# Altium schematic symbol library 3D_MIG_Controller.SCHLIB: 528 symbols (part 6 of 6)
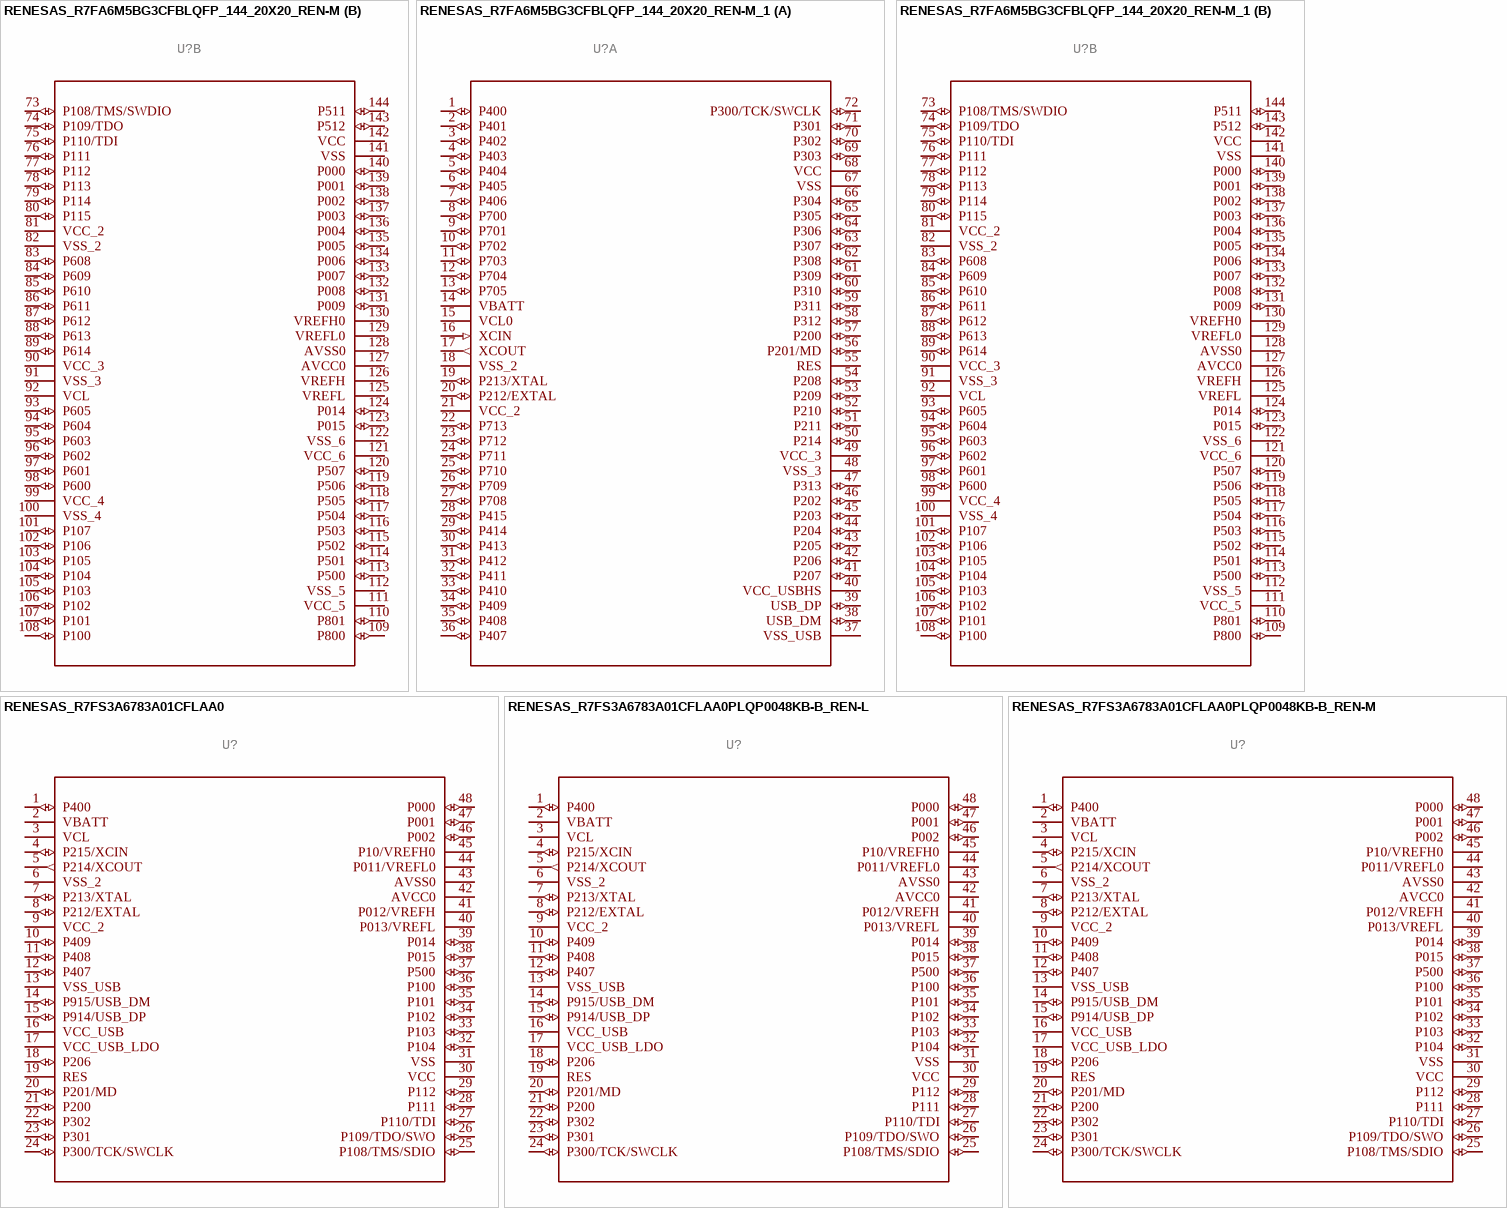
[diagram p37: symbols RENESAS_R7FA6M5BG3CFBLQFP_144_20X20_REN-M to RENESAS_R7FS3A6783A01CFLAA0PLQP0048KB-B_REN-M]

## RENESAS_R7FA6M5BG3CFBLQFP_144_20X20_REN-M_1
designator U?
MANUFACTURER_PART_NUMBER: R7FA6M5BG3CFB; MFR_NAME: Renesas Electronics; GateName_1: A; SymbolName_1: R7FA6M5BG3CFB_A; GateName_2: B; SymbolName_2: R7FA6M5BG3CFB_B; DeviceName: LQFP_144_20X20_REN-M; DeviceSetName: RENESAS_R7FA6M5BG3CFB; LibraryName: 3D_MIG_Controller; Package: LQFP_144_20X20_REN-M; COPYRIGHT: Copyright (C) 2022 Ultra Librarian. All rights reserved.
footprint LQFP_144_20X20_REN-M
part A pins: 1 P400 (io), 2 P401 (io), 3 P402 (io), 4 P403 (io), 5 P404 (io), 6 P405 (io), 7 P406 (io), 8 P700 (io), 9 P701 (io), 10 P702 (io), 11 P703 (io), 12 P704 (io), 13 P705 (io), 14 VBATT (power), 15 VCL0 (power), 16 XCIN (in), 17 XCOUT (out), 18 VSS_2 (power), 19 P213/XTAL (io), 20 P212/EXTAL (io), 21 VCC_2 (power), 22 P713 (io), 23 P712 (io), 24 P711 (io), 25 P710 (io), 26 P709 (io), 27 P708 (io), 28 P415 (io), 29 P414 (io), 30 P413 (io), 31 P412 (io), 32 P411 (io), 33 P410 (io), 34 P409 (io), 35 P408 (io), 36 P407 (io), 37 VSS_USB (power), 38 USB_DM (io), 39 USB_DP (io), 40 VCC_USBHS (power), 41 P207 (io), 42 P206 (io), 43 P205 (io), 44 P204 (io), 45 P203 (io), 46 P202 (io), 47 P313 (io), 48 VSS_3 (power), 49 VCC_3 (power), 50 P214 (io), 51 P211 (io), 52 P210 (io), 53 P209 (io), 54 P208 (io), 55 RES, 56 P201/MD (io), 57 P200 (io), 58 P312 (io), 59 P311 (io), 60 P310 (io), 61 P309 (io), 62 P308 (io), 63 P307 (io), 64 P306 (io), 65 P305 (io), 66 P304 (io), 67 VSS (power), 68 VCC (power), 69 P303 (io), 70 P302 (io), 71 P301 (io), 72 P300/TCK/SWCLK (io)
part B pins: 73 P108/TMS/SWDIO (io), 74 P109/TDO (io), 75 P110/TDI (io), 76 P111 (io), 77 P112 (io), 78 P113 (io), 79 P114 (io), 80 P115 (io), 81 VCC_2 (power), 82 VSS_2 (power), 83 P608 (io), 84 P609 (io), 85 P610 (io), 86 P611 (io), 87 P612 (io), 88 P613 (io), 89 P614 (io), 90 VCC_3 (power), 91 VSS_3 (power), 92 VCL (power), 93 P605 (io), 94 P604 (io), 95 P603 (io), 96 P602 (io), 97 P601 (io), 98 P600 (io), 99 VCC_4 (power), 100 VSS_4 (power), 101 P107 (io), 102 P106 (io), 103 P105 (io), 104 P104 (io), 105 P103 (io), 106 P102 (io), 107 P101 (io), 108 P100 (io), 109 P800 (io), 110 P801 (io), 111 VCC_5 (power), 112 VSS_5 (power), 113 P500 (io), 114 P501 (io), 115 P502 (io), 116 P503 (io), 117 P504 (io), 118 P505 (io), 119 P506 (io), 120 P507 (io), 121 VCC_6 (power), 122 VSS_6 (power), 123 P015 (io), 124 P014 (io), 125 VREFL (power), 126 VREFH (power), 127 AVCC0 (power), 128 AVSS0 (power), 129 VREFL0 (power), 130 VREFH0 (power), 131 P009 (io), 132 P008 (io), 133 P007 (io), 134 P006 (io), 135 P005 (io), 136 P004 (io), 137 P003 (io), 138 P002 (io), 139 P001 (io), 140 P000 (io), 141 VSS (power), 142 VCC (power), 143 P512 (io), 144 P511 (io)

## RENESAS_R7FS3A6783A01CFLAA0
designator U?
MANUFACTURER_PART_NUMBER: R7FS3A6783A01CFL#AA0; GateName_1: A; SymbolName_1: R7FS3A6783A01CFLAA0; DeviceSetName: RENESAS_R7FS3A6783A01CFLAA0; BUILT_BY: EMA_Cory; SOURCELIBRARY: Add_to_database_2021-06-10; VENDOR: Renesas Electronics; LibraryName: 3D_MIG_Controller; Package: PLQP0048KB-B_REN; COPYRIGHT: Copyright (C) 2021 Accelerated Designs. All rights reserved; DATASHEET: https://www.renesas.com/us/en/document/dst/s3a6-microcontroller-group-datasheet-r01ds0308eu0120?language=en
footprint PLQP0048KB-B_REN
pins: 1 P400 (io), 2 VBATT, 3 VCL, 4 P215/XCIN (io), 5 P214/XCOUT (out), 6 VSS_2, 7 P213/XTAL (io), 8 P212/EXTAL (io), 9 VCC_2 (power), 10 P409 (io), 11 P408 (io), 12 P407 (io), 13 VSS_USB, 14 P915/USB_DM (io), 15 P914/USB_DP (io), 16 VCC_USB (power), 17 VCC_USB_LDO (power), 18 P206 (io), 19 RES, 20 P201/MD (io), 21 P200 (io), 22 P302 (io), 23 P301 (io), 24 P300/TCK/SWCLK (io), 25 P108/TMS/SDIO (io), 26 P109/TDO/SWO (io), 27 P110/TDI (io), 28 P111 (io), 29 P112 (io), 30 VCC (power), 31 VSS, 32 P104 (io), 33 P103 (io), 34 P102 (io), 35 P101 (io), 36 P100 (io), 37 P500 (io), 38 P015 (io), 39 P014 (io), 40 P013/VREFL (power), 41 P012/VREFH (power), 42 AVCC0 (power), 43 AVSS0, 44 P011/VREFL0 (power), 45 P10/VREFH0 (power), 46 P002 (io), 47 P001 (io), 48 P000 (io)

## RENESAS_R7FS3A6783A01CFLAA0PLQP0048KB-B_REN-L
designator U?
MANUFACTURER_PART_NUMBER: R7FS3A6783A01CFL#AA0; GateName_1: A; SymbolName_1: R7FS3A6783A01CFLAA0; DeviceName: PLQP0048KB-B_REN-L; DeviceSetName: RENESAS_R7FS3A6783A01CFLAA0; BUILT_BY: EMA_Cory; SOURCELIBRARY: Add_to_database_2021-06-10; VENDOR: Renesas Electronics; LibraryName: 3D_MIG_Controller; Package: PLQP0048KB-B_REN-L; COPYRIGHT: Copyright (C) 2021 Accelerated Designs. All rights reserved; DATASHEET: https://www.renesas.com/us/en/document/dst/s3a6-microcontroller-group-datasheet-r01ds0308eu0120?language=en
footprint PLQP0048KB-B_REN-L
pins: 1 P400 (io), 2 VBATT, 3 VCL, 4 P215/XCIN (io), 5 P214/XCOUT (out), 6 VSS_2, 7 P213/XTAL (io), 8 P212/EXTAL (io), 9 VCC_2 (power), 10 P409 (io), 11 P408 (io), 12 P407 (io), 13 VSS_USB, 14 P915/USB_DM (io), 15 P914/USB_DP (io), 16 VCC_USB (power), 17 VCC_USB_LDO (power), 18 P206 (io), 19 RES, 20 P201/MD (io), 21 P200 (io), 22 P302 (io), 23 P301 (io), 24 P300/TCK/SWCLK (io), 25 P108/TMS/SDIO (io), 26 P109/TDO/SWO (io), 27 P110/TDI (io), 28 P111 (io), 29 P112 (io), 30 VCC (power), 31 VSS, 32 P104 (io), 33 P103 (io), 34 P102 (io), 35 P101 (io), 36 P100 (io), 37 P500 (io), 38 P015 (io), 39 P014 (io), 40 P013/VREFL (power), 41 P012/VREFH (power), 42 AVCC0 (power), 43 AVSS0, 44 P011/VREFL0 (power), 45 P10/VREFH0 (power), 46 P002 (io), 47 P001 (io), 48 P000 (io)

## RENESAS_R7FS3A6783A01CFLAA0PLQP0048KB-B_REN-M
designator U?
MANUFACTURER_PART_NUMBER: R7FS3A6783A01CFL#AA0; GateName_1: A; SymbolName_1: R7FS3A6783A01CFLAA0; DeviceName: PLQP0048KB-B_REN-M; DeviceSetName: RENESAS_R7FS3A6783A01CFLAA0; BUILT_BY: EMA_Cory; SOURCELIBRARY: Add_to_database_2021-06-10; VENDOR: Renesas Electronics; LibraryName: 3D_MIG_Controller; Package: PLQP0048KB-B_REN-M; COPYRIGHT: Copyright (C) 2021 Accelerated Designs. All rights reserved; DATASHEET: https://www.renesas.com/us/en/document/dst/s3a6-microcontroller-group-datasheet-r01ds0308eu0120?language=en
footprint PLQP0048KB-B_REN-M
pins: 1 P400 (io), 2 VBATT, 3 VCL, 4 P215/XCIN (io), 5 P214/XCOUT (out), 6 VSS_2, 7 P213/XTAL (io), 8 P212/EXTAL (io), 9 VCC_2 (power), 10 P409 (io), 11 P408 (io), 12 P407 (io), 13 VSS_USB, 14 P915/USB_DM (io), 15 P914/USB_DP (io), 16 VCC_USB (power), 17 VCC_USB_LDO (power), 18 P206 (io), 19 RES, 20 P201/MD (io), 21 P200 (io), 22 P302 (io), 23 P301 (io), 24 P300/TCK/SWCLK (io), 25 P108/TMS/SDIO (io), 26 P109/TDO/SWO (io), 27 P110/TDI (io), 28 P111 (io), 29 P112 (io), 30 VCC (power), 31 VSS, 32 P104 (io), 33 P103 (io), 34 P102 (io), 35 P101 (io), 36 P100 (io), 37 P500 (io), 38 P015 (io), 39 P014 (io), 40 P013/VREFL (power), 41 P012/VREFH (power), 42 AVCC0 (power), 43 AVSS0, 44 P011/VREFL0 (power), 45 P10/VREFH0 (power), 46 P002 (io), 47 P001 (io), 48 P000 (io)

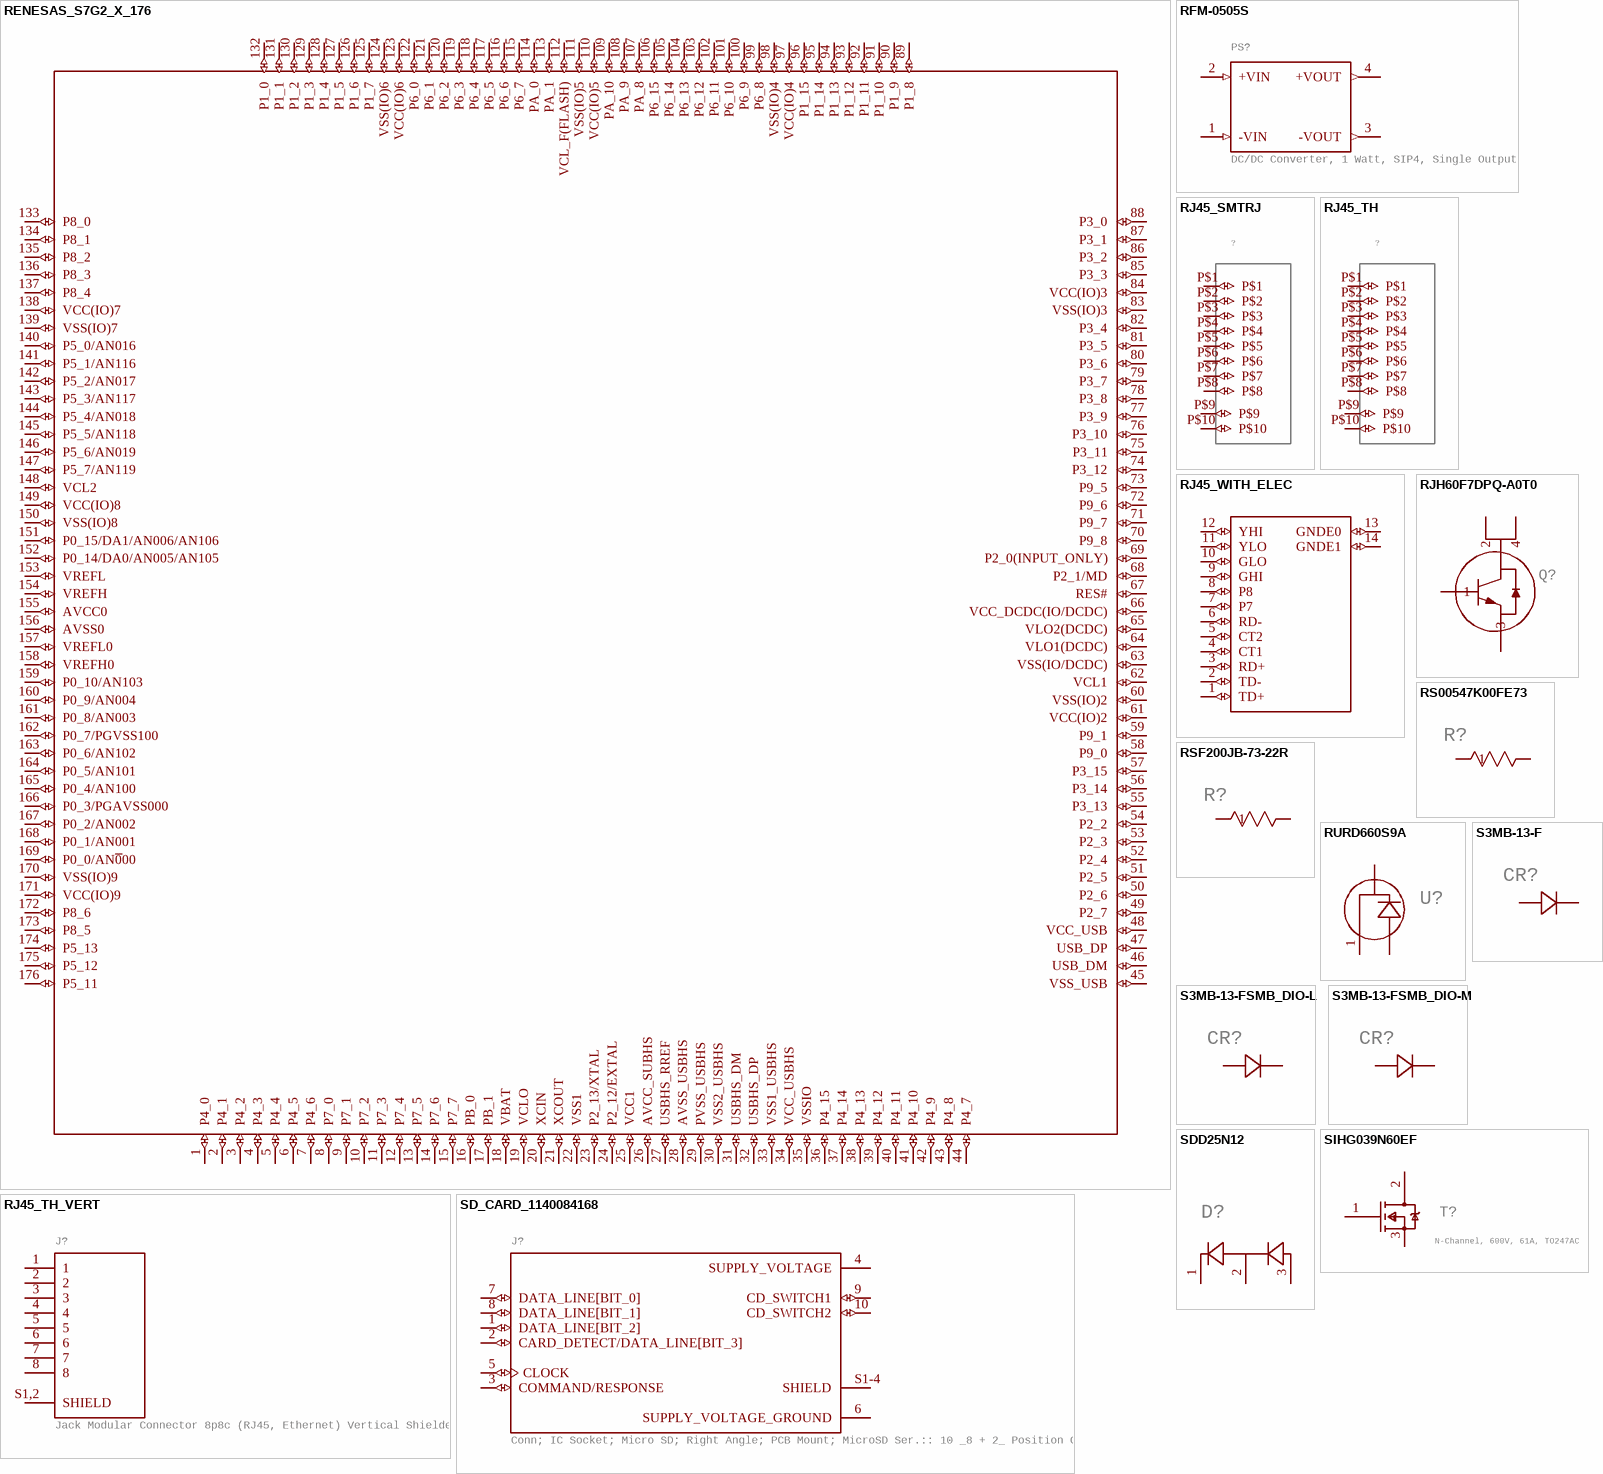
[diagram p30: symbols RENESAS_S7G2_X_176 to SIHG039N60EF]

## RENESAS_S7G2_X_176
designator U?
PARTNO: R7FS7G27H3A01CFC#AA0; GateName_1: G$1; SymbolName_1: S7G2_X_176_PIN; DeviceSetName: RENESAS_S7G2_X_176; LibraryName: 3D_MIG_Controller; Package: LQFP176_24X24
footprint LQFP176_24X24
pins: 1 P4_0 (io), 2 P4_1 (io), 3 P4_2 (io), 4 P4_3 (io), 5 P4_4 (io), 6 P4_5 (io), 7 P4_6 (io), 8 P7_0 (io), 9 P7_1 (io), 10 P7_2 (io), 11 P7_3 (io), 12 P7_4 (io), 13 P7_5 (io), 14 P7_6 (io), 15 P7_7 (io), 16 PB_0 (io), 17 PB_1 (io), 18 VBAT (io), 19 VCLO (io), 20 XCIN (io), 21 XCOUT (io), 22 VSS1 (io), 23 P2_13/XTAL (io), 24 P2_12/EXTAL (io), 25 VCC1 (io), 26 AVCC_SUBHS (io), 27 USBHS_RREF (io), 28 AVSS_USBHS (io), 29 PVSS_USBHS (io), 30 VSS2_USBHS (io), 31 USBHS_DM (io), 32 USBHS_DP (io), 33 VSS1_USBHS (io), 34 VCC_USBHS (io), 35 VSSIO (io), 36 P4_15 (io), 37 P4_14 (io), 38 P4_13 (io), 39 P4_12 (io), 40 P4_11 (io), 41 P4_10 (io), 42 P4_9 (io), 43 P4_8 (io), 44 P4_7 (io), 45 VSS_USB (io), 46 USB_DM (io), 47 USB_DP (io), 48 VCC_USB (io), 49 P2_7 (io), 50 P2_6 (io), 51 P2_5 (io), 52 P2_4 (io), 53 P2_3 (io), 54 P2_2 (io), 55 P3_13 (io), 56 P3_14 (io), 57 P3_15 (io), 58 P9_0 (io), 59 P9_1 (io), 60 VSS(IO)2 (io), 61 VCC(IO)2 (io), 62 VCL1 (io), 63 VSS(IO/DCDC) (io), 64 VLO1(DCDC) (io), 65 VLO2(DCDC) (io), 66 VCC_DCDC(IO/DCDC) (io), 67 RES# (io), 68 P2_1/MD (io), 69 P2_0(INPUT_ONLY) (io), 70 P9_8 (io), 71 P9_7 (io), 72 P9_6 (io), 73 P9_5 (io), 74 P3_12 (io), 75 P3_11 (io), 76 P3_10 (io), 77 P3_9 (io), 78 P3_8 (io), 79 P3_7 (io), 80 P3_6 (io), 81 P3_5 (io), 82 P3_4 (io), 83 VSS(IO)3 (io), 84 VCC(IO)3 (io), 85 P3_3 (io), 86 P3_2 (io), 87 P3_1 (io), 88 P3_0 (io), 89 P1_8 (io), 90 P1_9 (io), 91 P1_10 (io), 92 P1_11 (io), 93 P1_12 (io), 94 P1_13 (io), 95 P1_14 (io), 96 P1_15 (io), 97 VCC(IO)4 (io), 98 VSS(IO)4 (io), 99 P6_8 (io), 100 P6_9 (io), 101 P6_10 (io), 102 P6_11 (io), 103 P6_12 (io), 104 P6_13 (io), 105 P6_14 (io), 106 P6_15 (io), 107 PA_8 (io), 108 PA_9 (io), 109 PA_10 (io), 110 VCC(IO)5 (io), 111 VSS(IO)5 (io), 112 VCL_F(FLASH) (io), 113 PA_1 (io), 114 PA_0 (io), 115 P6_7 (io), 116 P6_6 (io), 117 P6_5 (io), 118 P6_4 (io), 119 P6_3 (io), 120 P6_2 (io), 121 P6_1 (io), 122 P6_0 (io), 123 VCC(IO)6 (io), 124 VSS(IO)6 (io), 125 P1_7 (io), 126 P1_6 (io), 127 P1_5 (io), 128 P1_4 (io), 129 P1_3 (io), 130 P1_2 (io), 131 P1_1 (io), 132 P1_0 (io), 133 P8_0 (io), 134 P8_1 (io), 135 P8_2 (io), 136 P8_3 (io), 137 P8_4 (io), 138 VCC(IO)7 (io), 139 VSS(IO)7 (io), 140 P5_0/AN016 (io), 141 P5_1/AN116 (io), 142 P5_2/AN017 (io), 143 P5_3/AN117 (io), 144 P5_4/AN018 (io), 145 P5_5/AN118 (io), 146 P5_6/AN019 (io), 147 P5_7/AN119 (io), 148 VCL2 (io), 149 VCC(IO)8 (io), 150 VSS(IO)8 (io), 151 P0_15/DA1/AN006/AN106 (io), 152 P0_14/DA0/AN005/AN105 (io), 153 VREFL (io), 154 VREFH (io), 155 AVCC0 (io), 156 AVSS0 (io), 157 VREFL0 (io), 158 VREFH0 (io), 159 P0_10/AN103 (io), 160 P0_9/AN004 (io), 161 P0_8/AN003 (io), 162 P0_7/PGVSS100 (io), 163 P0_6/AN102 (io), 164 P0_5/AN101 (io), 165 P0_4/AN100 (io), 166 P0_3/PGAVSS000 (io), 167 P0_2/AN002 (io), 168 P0_1/AN001 (io), 169 P0_0/AN~{0}00 (io), 170 VSS(IO)9 (io), 171 VCC(IO)9 (io), 172 P8_6 (io), 173 P8_5 (io), 174 P5_13 (io), 175 P5_12 (io), 176 P5_11 (io)

## RFM-0505S
designator PS?, comment DC/DC Converter, 1 Watt, SIP4, Single Output
GateName_1: G$1; SymbolName_1: RFM-0505S; MF: Recom Power; LibraryName: 3D_MIG_Controller; DeviceSetName: RFM-0505S; Package: CONV_RFM-0505S; DIGI-KEY_PART_NUMBER: 945-3159-ND; DIGIKEY-PURCHASE-URL: https://snapeda.com/shop?store=DigiKey&id=2771046; MOUSER-PURCHASE-URL: https://snapeda.com/shop?store=Mouser&id=2771046; MP: RFM-0505S; PACKAGE: SIP-4 Recom Power
footprint CONV_RFM-0505S
pins: 1 -VIN (in), 2 +VIN (in), 3 -VOUT (out), 4 +VOUT (out)

## RJ45_SMTRJ
designator ?
GateName_1: G$1; SymbolName_1: RJ45; DeviceName: RJ; DeviceSetName: RJ45_SMT; LibraryName: 3D_MIG_Controller; Package: RJ45_SMT
footprint RJ45_SMT
pins: P$1 (io), P$2 (io), P$3 (io), P$4 (io), P$5 (io), P$6 (io), P$7 (io), P$8 (io), P$9 (io), P$10 (io)

## RJ45_TH
designator ?
GateName_1: G$1; SymbolName_1: RJ45; DeviceSetName: RJ45_TH; LibraryName: 3D_MIG_Controller; Package: RJ45_TH
footprint RJ45_TH
pins: P$1 (io), P$2 (io), P$3 (io), P$4 (io), P$5 (io), P$6 (io), P$7 (io), P$8 (io), P$9 (io), P$10 (io)

## RJ45_TH_VERT
designator J?, comment Jack Modular Connector 8p8c (RJ45, Ethernet) Vertical Shielded
GateName_1: G$1; SymbolName_1: A-2014-2S-4-N-R; DeviceSetName: RJ45_TH_VERT; MF: Assmann WSW Components; LibraryName: 3D_MIG_Controller; Package: ASSMANN_A-2014-2S-4-N-R; DIGI-KEY_PART_NUMBER: AE10399-ND; MP: A-2014-2S-4-N-R; PACKAGE: None
footprint ASSMANN_A-2014-2S-4-N-R
pins: 1, 2, 3, 4, 5, 6, 7, 8, S1,2 SHIELD

## RJ45_WITH_ELEC
designator RJ?
PARTNO: 13F-64GYD2PL2NL; GateName_1: G$1; SymbolName_1: RJ45_WITH_ELEC; MAN: Shanghai YDS Tech; VENDOR: lcsc.com; LibraryName: 3D_MIG_Controller; DeviceSetName: RJ45_WITH_ELEC; Package: RJ45_TH_ELEC
footprint RJ45_TH_ELEC
pins: 1 TD+ (io), 2 TD- (io), 3 RD+ (io), 4 CT1 (io), 5 CT2 (io), 6 RD- (io), 7 P7 (io), 8 P8 (io), 9 GHI (io), 10 GLO (io), 11 YLO (io), 12 YHI (io), 13 GNDE0 (io), 14 GNDE1 (io)

## RJH60F7DPQ-A0T0
designator Q?
MANUFACTURER_PART_NUMBER: RJH60F7DPQ-A0#T0; GateName_1: A; SymbolName_1: TRANS_N_IGBT_4PIN; DeviceSetName: RJH60F7DPQ-A0T0; BUILT_BY: EMA_UL_Team; SOURCELIBRARY: Renesas_2011-03-28_IGBT; VENDOR: Renesas Electronics; LibraryName: 3D_MIG_Controller; Package: TO-247A_REN
footprint TO-247A_REN
pins: 1, 2, 3, 4

## RS00547K00FE73
designator R?
GateName_1: A; SymbolName_1: RES; DeviceSetName: RS00547K00FE73; BUILT_BY: EMA_UL_Team; SOURCELIBRARY: Vishay_2014-12-31; VENDOR: Vishay; LibraryName: 3D_MIG_Controller; Package: RS005_VIS; MANUFACTURER_PART_NUMBER: RS00547K00FE73
footprint RS005_VIS
pins: 1, 2

## RSF200JB-73-22R
designator R?
GateName_1: A; SymbolName_1: RES; DeviceSetName: RSF200JB-73-22R; BUILT_BY: EMA_UL_Team; SOURCELIBRARY: Yageo_2014-12-31; VENDOR: Yageo; LibraryName: 3D_MIG_Controller; Package: YAG_RSF200_YAG; MANUFACTURER_PART_NUMBER: RSF200JB-73-22R
footprint YAG_RSF200_YAG
pins: 1, 2

## RURD660S9A
designator U?
GateName_1: A; SymbolName_1: DIODE_2XCATHODE; DeviceSetName: RURD660S9A; LibraryName: 3D_MIG_Controller; Package: TO-252
footprint TO-252
pins: 1 C1, 2 A, 3 C2

## S3MB-13-F
designator CR?
GateName_1: A; SymbolName_1: DIODE; DeviceSetName: S3MB-13-F; BUILT_BY: EMA_UL_Team; SOURCELIBRARY: DiodesInc_2015-05-08; VENDOR: Diodes Inc; LibraryName: 3D_MIG_Controller; Package: SMB_DIO; MANUFACTURER_PART_NUMBER: S3MB-13-F
footprint SMB_DIO
pins: 1, 2

## S3MB-13-FSMB_DIO-L
designator CR?
GateName_1: A; SymbolName_1: DIODE; DeviceName: SMB_DIO-L; DeviceSetName: S3MB-13-F; BUILT_BY: EMA_UL_Team; SOURCELIBRARY: DiodesInc_2015-05-08; VENDOR: Diodes Inc; LibraryName: 3D_MIG_Controller; Package: SMB_DIO-L; MANUFACTURER_PART_NUMBER: S3MB-13-F
footprint SMB_DIO-L
pins: 1, 2

## S3MB-13-FSMB_DIO-M
designator CR?
GateName_1: A; SymbolName_1: DIODE; DeviceName: SMB_DIO-M; DeviceSetName: S3MB-13-F; BUILT_BY: EMA_UL_Team; SOURCELIBRARY: DiodesInc_2015-05-08; VENDOR: Diodes Inc; LibraryName: 3D_MIG_Controller; Package: SMB_DIO-M; MANUFACTURER_PART_NUMBER: S3MB-13-F
footprint SMB_DIO-M
pins: 1, 2

## SD_CARD_1140084168
designator J?, comment Conn; IC Socket; Micro SD; Right Angle; PCB Mount; MicroSD Ser.:: 10 _8 + 2_ Position Card Connector Secure Digital - microSDâ„¢ Surface Mount, Right Angle Gold
PARTNO: 114-00841-68; GateName_1: G$1; SymbolName_1: 1140084168; DeviceSetName: SD_CARD_1140084168; MF: Amphenol ICC; VID: Digikey; VP: 114-00841-68-1-ND; LibraryName: 3D_MIG_Controller; Package: SD_CARD; VURL: https://www.digikey.ae/product-detail/en/amphenol-icc-commercial-products/114-00841-68/114-00841-68-1-ND/2187101?utm_source=snapeda&utm_medium=aggregator&utm_campaign=symbol
footprint SD_CARD
pins: 1 DATA_LINE[BIT_2] (io), 2 CARD_DETECT/DATA_LINE[BIT_3] (io), 3 COMMAND/RESPONSE (io), 4 SUPPLY_VOLTAGE (power), 5 CLOCK (io), 6 SUPPLY_VOLTAGE_GROUND (power), 7 DATA_LINE[BIT_0] (io), 8 DATA_LINE[BIT_1] (io), 9 CD_SWITCH1 (io), 10 CD_SWITCH2 (io), S1-4 SHIELD

## SDD25N12
designator D?
GateName_1: A; SymbolName_1: DIODE-DIODE; DeviceSetName: SDD25N12; LibraryName: 3D_MIG_Controller; Package: TO-247AD
footprint TO-247AD
pins: 1, 2, 3

## SIHG039N60EF
designator T?, comment N-Channel, 600V, 61A, TO247AC
GateName_1: G$1; SymbolName_1: N-MOSFET; DeviceSetName: SIHG039N60EF; LibraryName: 3D_MIG_Controller; Package: TO-247AC
footprint TO-247AC
pins: 1 G, 2 D, 3 S

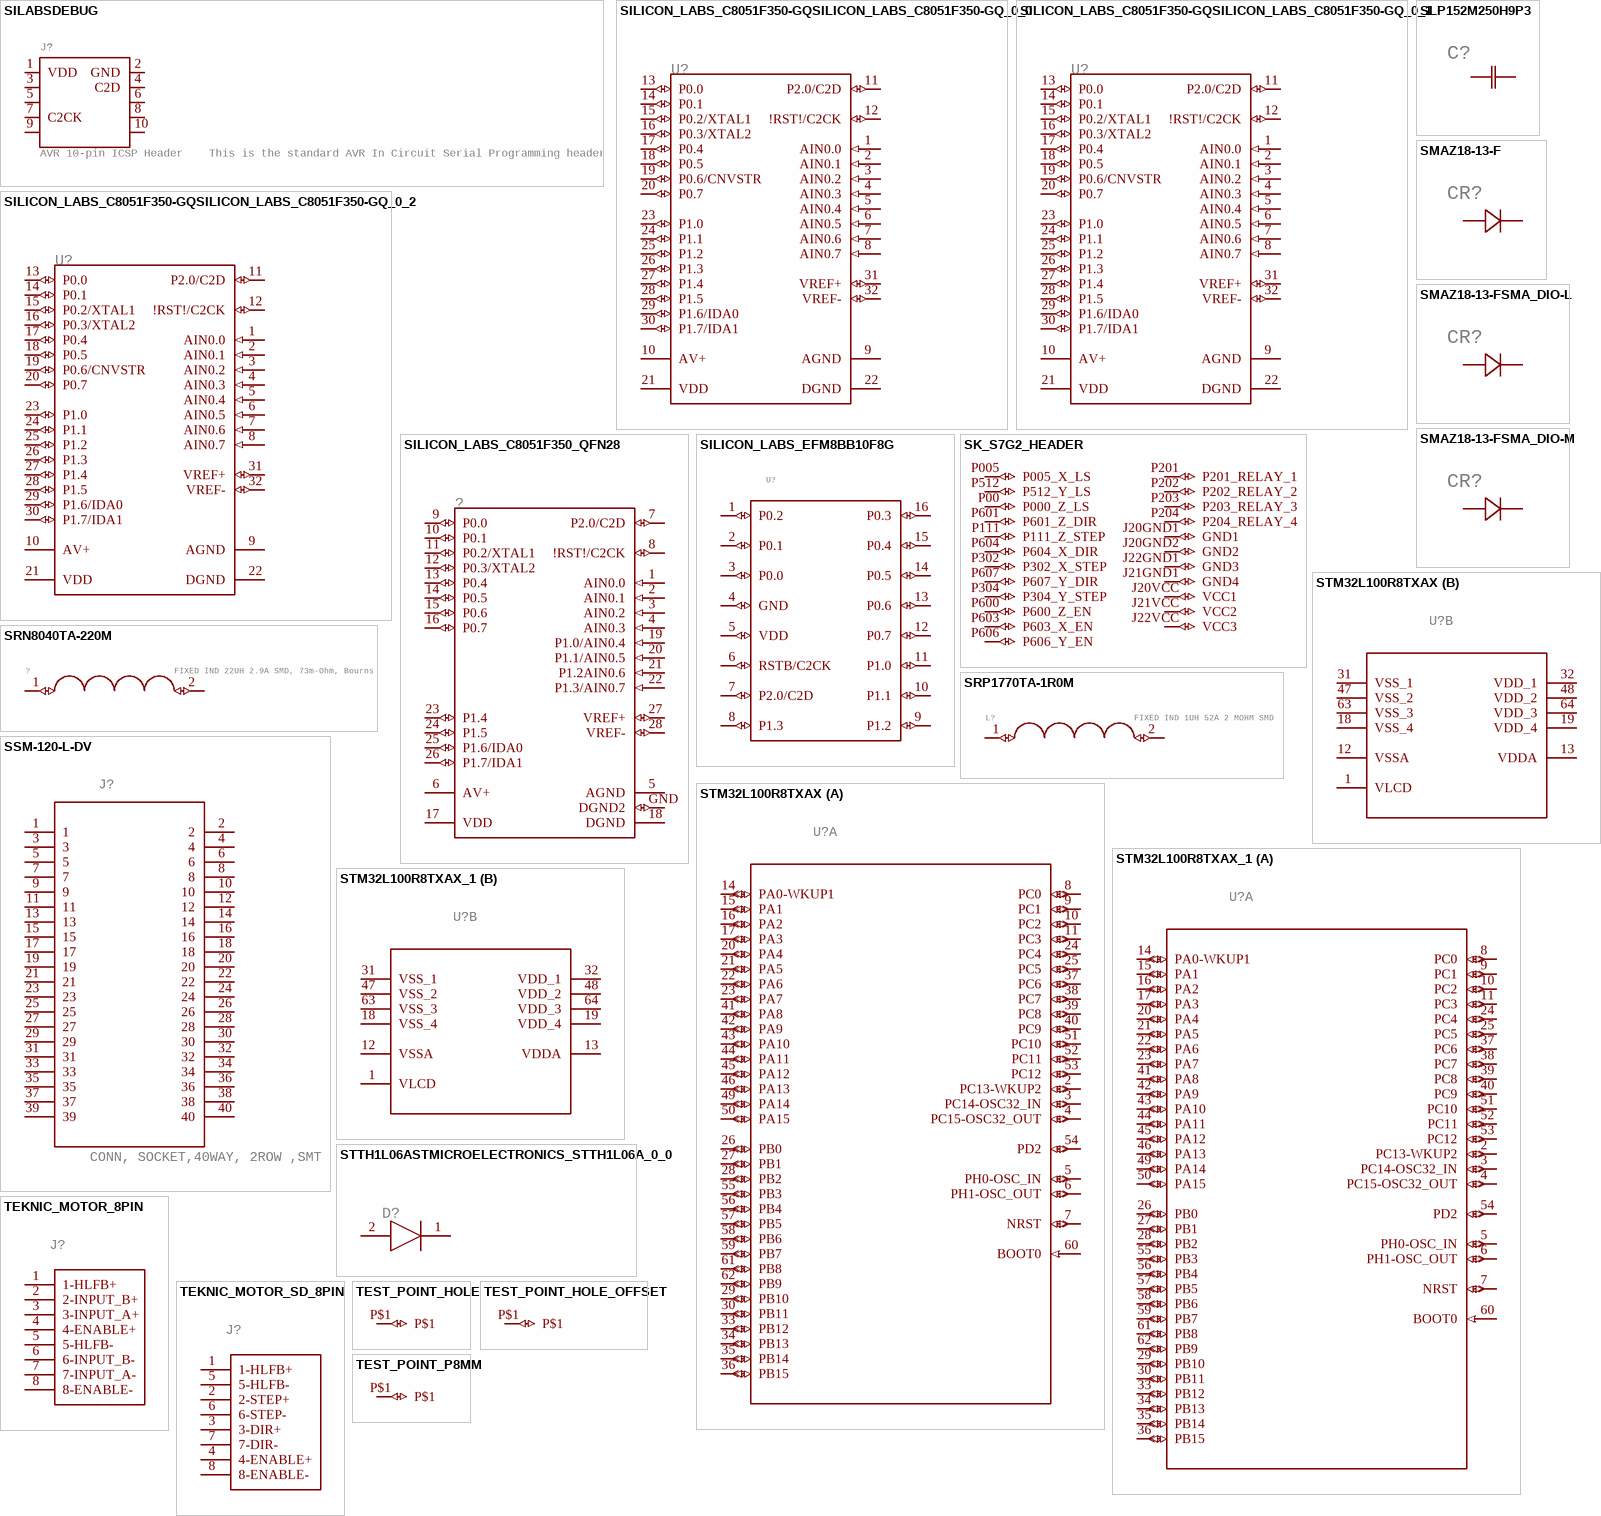
[diagram p31: symbols SILABSDEBUG to TEST_POINT_P8MM]

## SILABSDEBUG
designator J?, comment AVR 10-pin ICSP Header    This is the standard AVR In Circuit Serial Programming header. Minimal, but includes pin one indicator. Works with standard Olimex programmers.    SparkFun Products:  2x5 AVR ICSP Male Header - PTH  2x5 Pin Shrouded Header - PTH2
GateName_1: G$1; SymbolName_1: SILABSDEBUG; LibraryName: 3D_MIG_Controller; DeviceSetName: SILABSDEBUG; Package: 2X5-SHROUDED
footprint 2X5-SHROUDED
pins: 1 VDD, 2 GND, 3 NC, 4 C2D, 5, 6, 7 C2CK, 8, 9, 10

## SILICON_LABS_C8051F350-GQSILICON_LABS_C8051F350-GQ_0_0
designator U?, comment MC-8B-C8051F350-SQ32  (value not drawn)
MPN: C8051F350-GQ; GateName_1: G$0; SymbolName_1: SILICON_LABS_C8051F350-GQ_0_0; DeviceSetName: SILICON_LABS_C8051F350-GQ; CIIVA_IDS: 1203194; COMPONENT_LINK_1_DESCRIPTION: Manufacturer Link; IMPORT_TS: 1521846147; MF: Silicon Labs; PACKAGE_DESCRIPTION: 32-Pin Thin Quad Flat Pack, 7 x 7 x 1.4 mm Body, 0.8 mm Pitch; PACKAGE_VERSION: 2007; PREFIX: U; DeviceName: SILICON_LABS_C8051F350-GQ_0_0; LibraryName: 3D_MIG_Controller; Package: SILICON_LABS_C8051F350-GQ_0; COMPONENT_LINK_1_URL: http://www.silabs.com; DATASHEET: http://www.silabs.com/Support%20Documents/TechnicalDocs/C8051F35x.pdf; DATASHEET_VERSION: rev1.1, May-2007; FOOTPRINT_VARIANT_NAME_0: Level C; FOOTPRINT_VARIANT_NAME_1: Level B; FOOTPRINT_VARIANT_NAME_2: Level A; IMPORTED: yes; IMPORTED_FROM: vault; PACKAGE: LQFP-32; RELEASE_DATE: 1316160815; VAULT_GUID: 9261A95B-ECF6-4F5A-A7B5-F615F036E093; VAULT_REVISION: A4298A9B-E721-46AA-8EF5-68061D50DFE6
footprint SILICON_LABS_C8051F350-GQ_0
pins: 1 AIN0.0 (in), 2 AIN0.1 (in), 3 AIN0.2 (in), 4 AIN0.3 (in), 5 AIN0.4 (in), 6 AIN0.5 (in), 7 AIN0.6 (in), 8 AIN0.7 (in), 9 AGND (power), 10 AV+ (power), 11 P2.0/C2D (io), 12 !RST!/C2CK (io), 13 P0.0 (io), 14 P0.1 (io), 15 P0.2/XTAL1 (io), 16 P0.3/XTAL2 (io), 17 P0.4 (io), 18 P0.5 (io), 19 P0.6/CNVSTR (io), 20 P0.7 (io), 21 VDD (power), 22 DGND (power), 23 P1.0 (io), 24 P1.1 (io), 25 P1.2 (io), 26 P1.3 (io), 27 P1.4 (io), 28 P1.5 (io), 29 P1.6/IDA0 (io), 30 P1.7/IDA1 (io), 31 VREF+ (io), 32 VREF- (io)

## SILICON_LABS_C8051F350-GQSILICON_LABS_C8051F350-GQ_0_1
designator U?, comment MC-8B-C8051F350-SQ32  (value not drawn)
MPN: C8051F350-GQ; GateName_1: G$0; SymbolName_1: SILICON_LABS_C8051F350-GQ_0_0; DeviceName: SILICON_LABS_C8051F350-GQ_0_1; DeviceSetName: SILICON_LABS_C8051F350-GQ; CIIVA_IDS: 1203194; COMPONENT_LINK_1_DESCRIPTION: Manufacturer Link; IMPORT_TS: 1521846147; MF: Silicon Labs; PACKAGE_DESCRIPTION: 32-Pin Thin Quad Flat Pack, 7 x 7 x 1.4 mm Body, 0.8 mm Pitch; PACKAGE_VERSION: 2007; PREFIX: U; LibraryName: 3D_MIG_Controller; Package: SILICON_LABS_C8051F350-GQ_1; COMPONENT_LINK_1_URL: http://www.silabs.com; DATASHEET: http://www.silabs.com/Support%20Documents/TechnicalDocs/C8051F35x.pdf; DATASHEET_VERSION: rev1.1, May-2007; FOOTPRINT_VARIANT_NAME_0: Level C; FOOTPRINT_VARIANT_NAME_1: Level B; FOOTPRINT_VARIANT_NAME_2: Level A; IMPORTED: yes; IMPORTED_FROM: vault; PACKAGE: LQFP-32; RELEASE_DATE: 1316160815; VAULT_GUID: 9261A95B-ECF6-4F5A-A7B5-F615F036E093; VAULT_REVISION: A4298A9B-E721-46AA-8EF5-68061D50DFE6
footprint SILICON_LABS_C8051F350-GQ_1
pins: 1 AIN0.0 (in), 2 AIN0.1 (in), 3 AIN0.2 (in), 4 AIN0.3 (in), 5 AIN0.4 (in), 6 AIN0.5 (in), 7 AIN0.6 (in), 8 AIN0.7 (in), 9 AGND (power), 10 AV+ (power), 11 P2.0/C2D (io), 12 !RST!/C2CK (io), 13 P0.0 (io), 14 P0.1 (io), 15 P0.2/XTAL1 (io), 16 P0.3/XTAL2 (io), 17 P0.4 (io), 18 P0.5 (io), 19 P0.6/CNVSTR (io), 20 P0.7 (io), 21 VDD (power), 22 DGND (power), 23 P1.0 (io), 24 P1.1 (io), 25 P1.2 (io), 26 P1.3 (io), 27 P1.4 (io), 28 P1.5 (io), 29 P1.6/IDA0 (io), 30 P1.7/IDA1 (io), 31 VREF+ (io), 32 VREF- (io)

## SILICON_LABS_C8051F350-GQSILICON_LABS_C8051F350-GQ_0_2
designator U?, comment MC-8B-C8051F350-SQ32  (value not drawn)
MPN: C8051F350-GQ; GateName_1: G$0; SymbolName_1: SILICON_LABS_C8051F350-GQ_0_0; DeviceName: SILICON_LABS_C8051F350-GQ_0_2; DeviceSetName: SILICON_LABS_C8051F350-GQ; CIIVA_IDS: 1203194; COMPONENT_LINK_1_DESCRIPTION: Manufacturer Link; IMPORT_TS: 1521846147; MF: Silicon Labs; PACKAGE_DESCRIPTION: 32-Pin Thin Quad Flat Pack, 7 x 7 x 1.4 mm Body, 0.8 mm Pitch; PACKAGE_VERSION: 2007; PREFIX: U; LibraryName: 3D_MIG_Controller; Package: SILICON_LABS_C8051F350-GQ_2; COMPONENT_LINK_1_URL: http://www.silabs.com; DATASHEET: http://www.silabs.com/Support%20Documents/TechnicalDocs/C8051F35x.pdf; DATASHEET_VERSION: rev1.1, May-2007; FOOTPRINT_VARIANT_NAME_0: Level C; FOOTPRINT_VARIANT_NAME_1: Level B; FOOTPRINT_VARIANT_NAME_2: Level A; IMPORTED: yes; IMPORTED_FROM: vault; PACKAGE: LQFP-32; RELEASE_DATE: 1316160815; VAULT_GUID: 9261A95B-ECF6-4F5A-A7B5-F615F036E093; VAULT_REVISION: A4298A9B-E721-46AA-8EF5-68061D50DFE6
footprint SILICON_LABS_C8051F350-GQ_2
pins: 1 AIN0.0 (in), 2 AIN0.1 (in), 3 AIN0.2 (in), 4 AIN0.3 (in), 5 AIN0.4 (in), 6 AIN0.5 (in), 7 AIN0.6 (in), 8 AIN0.7 (in), 9 AGND (power), 10 AV+ (power), 11 P2.0/C2D (io), 12 !RST!/C2CK (io), 13 P0.0 (io), 14 P0.1 (io), 15 P0.2/XTAL1 (io), 16 P0.3/XTAL2 (io), 17 P0.4 (io), 18 P0.5 (io), 19 P0.6/CNVSTR (io), 20 P0.7 (io), 21 VDD (power), 22 DGND (power), 23 P1.0 (io), 24 P1.1 (io), 25 P1.2 (io), 26 P1.3 (io), 27 P1.4 (io), 28 P1.5 (io), 29 P1.6/IDA0 (io), 30 P1.7/IDA1 (io), 31 VREF+ (io), 32 VREF- (io)

## SILICON_LABS_C8051F350_QFN28
designator ?
GateName_1: A; SymbolName_1: SILICON_LABS_C8051F353-GMR_28QFN; DeviceSetName: SILICON_LABS_C8051F350_QFN28; LibraryName: 3D_MIG_Controller; Package: QFN-28
footprint QFN-28
pins: 1 AIN0.0 (in), 2 AIN0.1 (in), 3 AIN0.2 (in), 4 AIN0.3 (in), 5 AGND (power), 6 AV+ (power), 7 P2.0/C2D (io), 8 !RST!/C2CK (io), 9 P0.0 (io), 10 P0.1 (io), 11 P0.2/XTAL1 (io), 12 P0.3/XTAL2 (io), 13 P0.4 (io), 14 P0.5 (io), 15 P0.6 (io), 16 P0.7 (io), 17 VDD (power), 18 DGND (power), 19 P1.0/AIN0.4 (in), 20 P1.1/AIN0.5 (in), 21 P1.2AIN0.6 (in), 22 P1.3/AIN0.7 (in), 23 P1.4 (io), 24 P1.5 (io), 25 P1.6/IDA0 (io), 26 P1.7/IDA1 (io), 27 VREF+ (io), 28 VREF- (io), GND DGND2 (io)

## SILICON_LABS_EFM8BB10F8G
designator U?
GateName_1: A; SymbolName_1: SILICON_LABS_EFM8BB10F8G_16; DeviceSetName: SILICON_LABS_EFM8BB10F8G; LibraryName: 3D_MIG_Controller; Package: SOIC16
footprint SOIC16
pins: 1 P0.2 (io), 2 P0.1 (io), 3 P0.0 (io), 4 GND (io), 5 VDD (io), 6 RSTB/C2CK (io), 7 P2.0/C2D (io), 8 P1.3 (io), 9 P1.2 (io), 10 P1.1 (io), 11 P1.0 (io), 12 P0.7 (io), 13 P0.6 (io), 14 P0.5 (io), 15 P0.4 (io), 16 P0.3 (io)

## SK_S7G2_HEADER
designator ?
GateName_1: G$1; SymbolName_1: SK_S7G2; DeviceSetName: SK_S7G2_HEADER; LibraryName: 3D_MIG_Controller; Package: SK_S7G2
footprint SK_S7G2
pins: J20GND1 GND1 (io), J20GND2 GND2 (io), J20VCC VCC1 (io), J21GND1 GND4 (io), J21VCC VCC2 (io), J22GND1 GND3 (io), J22VCC VCC3 (io), P00 P000_Z_LS (io), P005 P005_X_LS (io), P111 P111_Z_STEP (io), P201 P201_RELAY_1 (io), P202 P202_RELAY_2 (io), P203 P203_RELAY_3 (io), P204 P204_RELAY_4 (io), P302 P302_X_STEP (io), P304 P304_Y_STEP (io), P512 P512_Y_LS (io), P600 P600_Z_EN (io), P601 P601_Z_DIR (io), P603 P603_X_EN (io), P604 P604_X_DIR (io), P606 P606_Y_EN (io), P607 P607_Y_DIR (io)

## SLP152M250H9P3
designator C?
GateName_1: A; SymbolName_1: CAPH; DeviceSetName: SLP152M250H9P3; BUILT_BY: EMA_Kyle; SOURCELIBRARY: Add_to_database_2021-04-21; VENDOR: Cornell Dubilier; LibraryName: 3D_MIG_Controller; Package: CAP_SLP152M250H9P3_CND; COPYRIGHT: Copyright (C) 2018 Accelerated Designs. All rights reserved; DATASHEET: https://www.cde.com/resources/catalogs/SLP.pdf; MANUFACTURER_PART_NUMBER: SLP152M250H9P3
footprint CAP_SLP152M250H9P3_CND
pins: 1, 2

## SMAZ18-13-F
designator CR?
GateName_1: A; SymbolName_1: DIODE; DeviceSetName: SMAZ18-13-F; BUILT_BY: EMA_UL_Team; SOURCELIBRARY: DiodesInc_2015-05-08; VENDOR: Diodes Inc; LibraryName: 3D_MIG_Controller; Package: SMA_DIO; MANUFACTURER_PART_NUMBER: SMAZ18-13-F
footprint SMA_DIO
pins: 1, 2

## SMAZ18-13-FSMA_DIO-L
designator CR?
GateName_1: A; SymbolName_1: DIODE; DeviceName: SMA_DIO-L; DeviceSetName: SMAZ18-13-F; BUILT_BY: EMA_UL_Team; SOURCELIBRARY: DiodesInc_2015-05-08; VENDOR: Diodes Inc; LibraryName: 3D_MIG_Controller; Package: SMA_DIO-L; MANUFACTURER_PART_NUMBER: SMAZ18-13-F
footprint SMA_DIO-L
pins: 1, 2

## SMAZ18-13-FSMA_DIO-M
designator CR?
GateName_1: A; SymbolName_1: DIODE; DeviceName: SMA_DIO-M; DeviceSetName: SMAZ18-13-F; BUILT_BY: EMA_UL_Team; SOURCELIBRARY: DiodesInc_2015-05-08; VENDOR: Diodes Inc; LibraryName: 3D_MIG_Controller; Package: SMA_DIO-M; MANUFACTURER_PART_NUMBER: SMAZ18-13-F
footprint SMA_DIO-M
pins: 1, 2

## SRN8040TA-220M
designator ?, comment FIXED IND 22UH 2.9A SMD, 73m-Ohm, Bourns
GateName_1: G$1; SymbolName_1: INDUCTOR_2_PINS; DeviceSetName: SRN8040TA-220M; LibraryName: 3D_MIG_Controller; Package: SRN8040TA-220M
footprint SRN8040TA-220M
pins: 1 P$1 (io), 2 P$2 (io)

## SRP1770TA-1R0M
designator L?, comment FIXED IND 1UH 52A 2 MOHM SMD
GateName_1: G$1; SymbolName_1: INDUCTOR_2_PINS; DeviceSetName: SRP1770TA-1R0M; LibraryName: 3D_MIG_Controller; Package: SRP2313AA-1R0M
footprint SRP2313AA-1R0M
pins: 1 P$1 (io), 2 P$2 (io)

## SSM-120-L-DV
designator J?, comment CONN, SOCKET,40WAY, 2ROW ,SMT
GateName_1: A; SymbolName_1: SSM-120-L-DV; LibraryName: 3D_MIG_Controller; DeviceSetName: SSM-120-L-DV; Package: SAMTEC_SSM-120-L-DV; MPN: SSM-120-L-DV; OC_FARNELL: 1668272; OC_NEWARK: 11P7981; PACKAGE: SMT,SOCKET, 40WAY, 2ROW; SUPPLIER: SAMTEC
footprint SAMTEC_SSM-120-L-DV
pins: 1, 2, 3, 4, 5, 6, 7, 8, 9, 10, 11, 12, 13, 14, 15, 16, 17, 18, 19, 20, 21, 22, 23, 24, 25, 26, 27, 28, 29, 30, 31, 32, 33, 34, 35, 36, 37, 38, 39, 40

## STM32L100R8TXAX
designator U?
GateName_1: A; SymbolName_1: STM32L1XXRXT_1; GateName_2: B; SymbolName_2: STM32L1XXRXT; DeviceSetName: STM32L100R8TXAX; BUILT_BY: EMA_UL_Team; SOURCELIBRARY: STMicroelectronics_2020-07-01; VENDOR: STMicroelectronics; LibraryName: 3D_MIG_Controller; Package: LQFP64-10X10MM; COPYRIGHT: Copyright (C) 2018 Accelerated Designs. All rights reserved; MANUFACTURER_PART_NUMBER: STM32L100R8TxAx
footprint LQFP64-10X10MM
part A pins: 2 PC13-WKUP2 (io), 3 PC14-OSC32_IN (io), 4 PC15-OSC32_OUT (io), 5 PH0-OSC_IN (io), 6 PH1-OSC_OUT (io), 7 NRST (io), 8 PC0 (io), 9 PC1 (io), 10 PC2 (io), 11 PC3 (io), 14 PA0-WKUP1 (io), 15 PA1 (io), 16 PA2 (io), 17 PA3 (io), 20 PA4 (io), 21 PA5 (io), 22 PA6 (io), 23 PA7 (io), 24 PC4 (io), 25 PC5 (io), 26 PB0 (io), 27 PB1 (io), 28 PB2 (io), 29 PB10 (io), 30 PB11 (io), 33 PB12 (io), 34 PB13 (io), 35 PB14 (io), 36 PB15 (io), 37 PC6 (io), 38 PC7 (io), 39 PC8 (io), 40 PC9 (io), 41 PA8 (io), 42 PA9 (io), 43 PA10 (io), 44 PA11 (io), 45 PA12 (io), 46 PA13 (io), 49 PA14 (io), 50 PA15 (io), 51 PC10 (io), 52 PC11 (io), 53 PC12 (io), 54 PD2 (io), 55 PB3 (io), 56 PB4 (io), 57 PB5 (io), 58 PB6 (io), 59 PB7 (io), 60 BOOT0 (in), 61 PB8 (io), 62 PB9 (io)
part B pins: 1 VLCD (power), 12 VSSA (power), 13 VDDA (power), 18 VSS_4 (power), 19 VDD_4 (power), 31 VSS_1 (power), 32 VDD_1 (power), 47 VSS_2 (power), 48 VDD_2 (power), 63 VSS_3 (power), 64 VDD_3 (power)

## STM32L100R8TXAX_1
designator U?
GateName_1: A; SymbolName_1: STM32L1XXRXT_1; GateName_2: B; SymbolName_2: STM32L1XXRXT; DeviceSetName: STM32L100R8TXAX; BUILT_BY: EMA_UL_Team; SOURCELIBRARY: STMicroelectronics_2020-07-01; VENDOR: STMicroelectronics; LibraryName: 3D_MIG_Controller; Package: LQFP64-10X10MM; COPYRIGHT: Copyright (C) 2018 Accelerated Designs. All rights reserved; MANUFACTURER_PART_NUMBER: STM32L100R8TxAx
footprint LQFP64-10X10MM
part A pins: 2 PC13-WKUP2 (io), 3 PC14-OSC32_IN (io), 4 PC15-OSC32_OUT (io), 5 PH0-OSC_IN (io), 6 PH1-OSC_OUT (io), 7 NRST (io), 8 PC0 (io), 9 PC1 (io), 10 PC2 (io), 11 PC3 (io), 14 PA0-WKUP1 (io), 15 PA1 (io), 16 PA2 (io), 17 PA3 (io), 20 PA4 (io), 21 PA5 (io), 22 PA6 (io), 23 PA7 (io), 24 PC4 (io), 25 PC5 (io), 26 PB0 (io), 27 PB1 (io), 28 PB2 (io), 29 PB10 (io), 30 PB11 (io), 33 PB12 (io), 34 PB13 (io), 35 PB14 (io), 36 PB15 (io), 37 PC6 (io), 38 PC7 (io), 39 PC8 (io), 40 PC9 (io), 41 PA8 (io), 42 PA9 (io), 43 PA10 (io), 44 PA11 (io), 45 PA12 (io), 46 PA13 (io), 49 PA14 (io), 50 PA15 (io), 51 PC10 (io), 52 PC11 (io), 53 PC12 (io), 54 PD2 (io), 55 PB3 (io), 56 PB4 (io), 57 PB5 (io), 58 PB6 (io), 59 PB7 (io), 60 BOOT0 (in), 61 PB8 (io), 62 PB9 (io)
part B pins: 1 VLCD (power), 12 VSSA (power), 13 VDDA (power), 18 VSS_4 (power), 19 VDD_4 (power), 31 VSS_1 (power), 32 VDD_1 (power), 47 VSS_2 (power), 48 VDD_2 (power), 63 VSS_3 (power), 64 VDD_3 (power)

## STTH1L06ASTMICROELECTRONICS_STTH1L06A_0_0
designator D?, comment Diode Standard 600V 1A Surface Mount SMA  (value not drawn)
GateName_1: G$0; SymbolName_1: STTH1L06A; DeviceName: STMICROELECTRONICS_STTH1L06A_0_0; CENTROID_NOT_SPECIFIED: No; DEVICE_CLASS_L1: Discrete Semiconductors; DEVICE_CLASS_L2: Diodes; DEVICE_CLASS_L3: Rectifier Diodes; LEAD_FREE: Yes; MAX_JUNCTION_TEMP: +175°C; MAX_SURGE_FORWARD_CURRENT: 20A; MF: STMicroelectronics; MFG_PACKAGE_IDENT_COMPONENT_ID: 68520089bca91e26; MFG_PACKAGE_IDENT_REV: 0; PEAK_REVERSE_CURRENT: 1uA; PREFIX: D; STANDOFF_HEIGHT: 0.05mm; VERIFICATION_VERSION: 0.0.0.3; LibraryName: 3D_MIG_Controller; DeviceSetName: STTH1L06A; Package: SMA_STTH1L06A; AUTOMOTIVE: No; DATASHEET: https://www.st.com/content/ccc/resource/technical/document/datasheet/e9/c2/09/e3/32/47/44/bd/CD00002694.pdf/files/CD00002694.pdf/jcr:content/translations/en.CD00002694.pdf; DIGIKEY_DESCRIPTION: DIODE GEN PURP 600V 1A SMA; DIGIKEY_PART_NUMBER: 497-3241-2-ND; FOOTPRINT_VARIANT_NAME_0: Recommended_Land_Pattern; FORWARD_CURRENT: 1A; HEIGHT: 2.65mm; MAX_REPETITIVE_REVERSE_VOLTAGE: 600V; MFG_PACKAGE_IDENT: SMA; MFG_PACKAGE_IDENT_DATE: 0; MOUSER_DESCRIPTION: DIODE GEN PURP 600V 1A SMA; MOUSER_PART_NUMBER: 511-STTH1L06A; MPN: STTH1L06A; PACKAGE: SMA; ROHS: Yes; TEMPERATURE_RANGE_HIGH: +175°C
footprint SMA_STTH1L06A
pins: 1 CATHODE, 2 ANODE

## TEKNIC_MOTOR_8PIN
designator J?
MANUFACTURER_PART_NUMBER: 39281083; MFR_NAME: Molex Connector Corporation; GateName_1: HLFB; SymbolName_1: CON_39281083_TEKNIC_8PIN; DeviceSetName: TEKNIC_MOTOR_8PIN; LibraryName: 3D_MIG_Controller; Package: CON_39281083; COPYRIGHT: Copyright (C) 2022 Ultra Librarian. All rights reserved.
footprint CON_39281083
pins: 1 1-HLFB+, 2 2-INPUT_B+, 3 3-INPUT_A+, 4 4-ENABLE+, 5 5-HLFB-, 6 6-INPUT_B-, 7 7-INPUT_A-, 8 8-ENABLE-

## TEKNIC_MOTOR_SD_8PIN
designator J?
MANUFACTURER_PART_NUMBER: 39281083; MFR_NAME: Molex Connector Corporation; GateName_1: G$1; SymbolName_1: TEKNIC_8PIN_SD; DeviceSetName: TEKNIC_MOTOR_SD_8PIN; LibraryName: 3D_MIG_Controller; Package: CON_39281083; COPYRIGHT: Copyright (C) 2022 Ultra Librarian. All rights reserved.
footprint CON_39281083
pins: 1 1-HLFB+, 2 2-STEP+, 3 3-DIR+, 4 4-ENABLE+, 5 5-HLFB-, 6 6-STEP-, 7 7-DIR-, 8 8-ENABLE-

## TEST_POINT_HOLE
designator ?
GateName_1: G$1; SymbolName_1: TEST_POINT; DeviceSetName: TEST_POINT_HOLE; LibraryName: 3D_MIG_Controller; Package: TEST_POINT_HOLE
footprint TEST_POINT_HOLE
pins: P$1 (io)

## TEST_POINT_HOLE_OFFSET
designator ?
GateName_1: G$1; SymbolName_1: TEST_POINT; DeviceSetName: TEST_POINT_HOLE_OFFSET; LibraryName: 3D_MIG_Controller; Package: TEST_POINT_HOLE_OFFSET
footprint TEST_POINT_HOLE_OFFSET
pins: P$1 (io)

## TEST_POINT_P8MM
designator TP-?
GateName_1: G$1; SymbolName_1: TEST_POINT; DeviceSetName: TEST_POINT_P8MM; LibraryName: 3D_MIG_Controller; Package: TEST_POINT_P8MM
footprint TEST_POINT_P8MM
pins: P$1 (io)

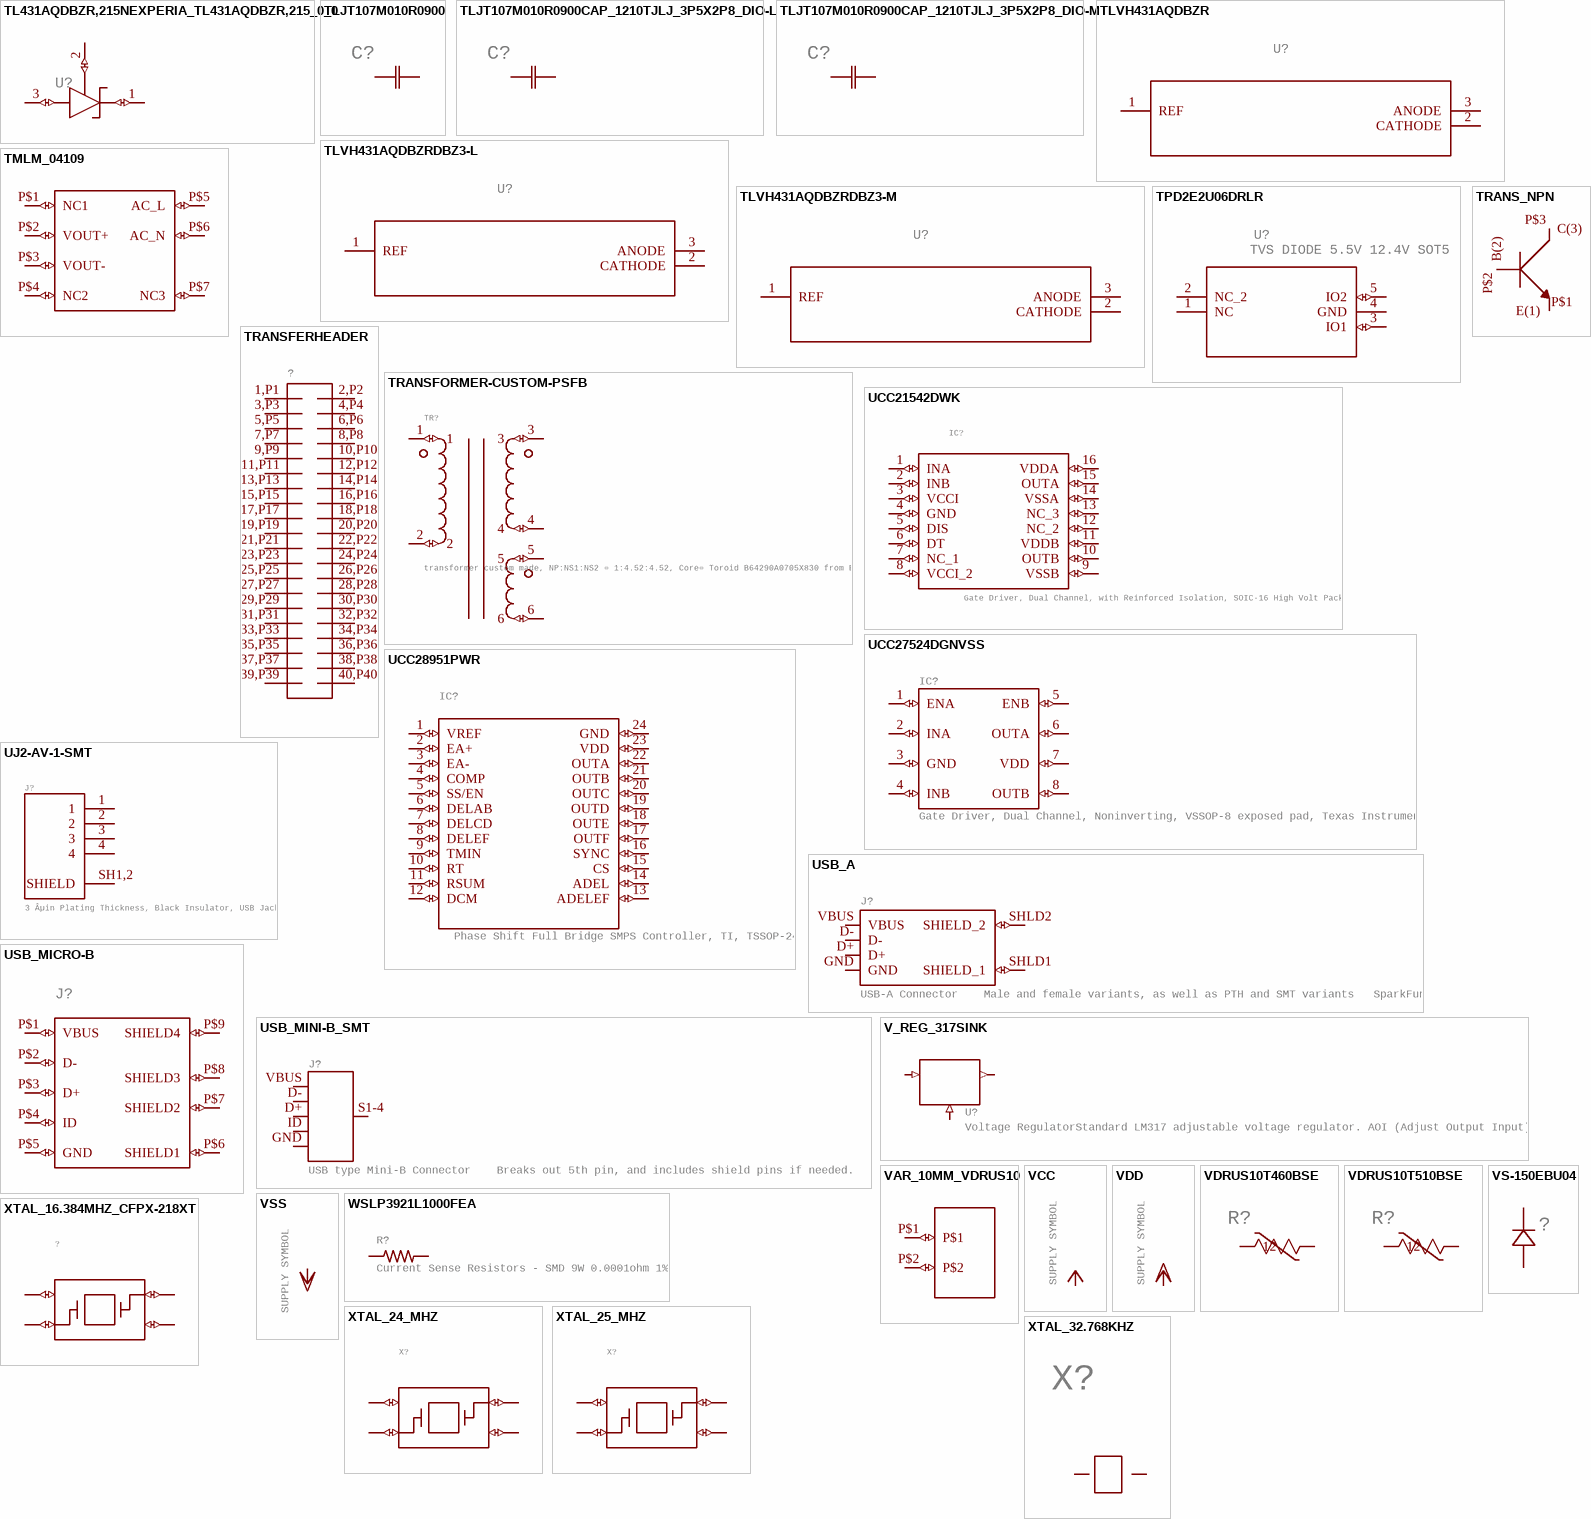
[diagram p32: symbols TL431AQDBZR,215NEXPERIA_TL431AQDBZR,215_0_0 to XTAL_32.768KHZ]

## TL431AQDBZR,215NEXPERIA_TL431AQDBZR,215_0_0
designator U?, comment Adjustable precision shunt regulator  (value not drawn)
GateName_1: G$0; SymbolName_1: TL431AQDBZR; DeviceName: NEXPERIA_TL431AQDBZR,215_0_0; DeviceSetName: TL431AQDBZR,215; CENTROID_NOT_SPECIFIED: No; CURRENT_-_CATHODE: 600µA; CURRENT_-_OUTPUT: 100mA; LEAD_FREE: yes; MF: Nexperia; MOUNTING_TYPE: Surface Mount; NUMBER_OF_CHANNELS: 1; OPERATING_TEMPERATURE: -40°C ~ 125°C; OTHER_NAMES: 568-4890-6; PREFIX: U; REFERENCE_TYPE: Shunt, Adjustable, Precision; TEMPERATURE_RANGE_HIGH: +125°C; TEMPERATURE_RANGE_LOW: -40°C; TOLERANCE: ±1%; VOLTAGE_-_INPUT: 2.495 V ~ 36 V; LibraryName: 3D_MIG_Controller; Package: SOT23_TL431AQDBZR,215; DATASHEET: http://assets.nexperia.com/documents/data-sheet/TL431_FAM.pdf; DIGIKEY_DESCRIPTION: IC VREF SHUNT ADJ SOT23-3; DIGIKEY_PART_NUMBER: 1727-4259-1-ND; IMPORTED_FROM: PartsBot; MOUSER_PART_NUMBER: 771-TL431AQDBZR215; MPN: TL431AQDBZR,215; PACKAGE: TO-236-3, SC-59, SOT-23-3; PACKAGING: Digi-Reel®; ROHS: yes; STANDARD_PACKAGE: 1; VOLTAGE_-_OUTPUT: 2.495 V ~ 36 V
footprint SOT23_TL431AQDBZR,215
pins: 1 K (io), 2 REF (io), 3 A (io)

## TLJT107M010R0900
designator C?
MFR_NAME: Diodes Inc; GateName_1: A; SymbolName_1: CAPH; DeviceSetName: TLJT107M010R0900; LibraryName: 3D_MIG_Controller; Package: CAP_1210TJLJ_3P5X2P8_DIO; COPYRIGHT: Copyright (C) 2023 Ultra Librarian. All rights reserved.; DIGIKEY_PART_NUMBER_1: 478-9011-1-ND; DIGIKEY_PART_NUMBER_2: 478-9011-2-ND; DIGIKEY_PART_NUMBER_3: 478-9011-6-ND; MANUFACTURER_PART_NUMBER: TLJT107M010R0900
footprint CAP_1210TJLJ_3P5X2P8_DIO
pins: 1, 2

## TLJT107M010R0900CAP_1210TJLJ_3P5X2P8_DIO-L
designator C?
MFR_NAME: Diodes Inc; GateName_1: A; SymbolName_1: CAPH; DeviceName: CAP_1210TJLJ_3P5X2P8_DIO-L; DeviceSetName: TLJT107M010R0900; LibraryName: 3D_MIG_Controller; Package: CAP_1210TJLJ_3P5X2P8_DIO-L; COPYRIGHT: Copyright (C) 2023 Ultra Librarian. All rights reserved.; DIGIKEY_PART_NUMBER_1: 478-9011-1-ND; DIGIKEY_PART_NUMBER_2: 478-9011-2-ND; DIGIKEY_PART_NUMBER_3: 478-9011-6-ND; MANUFACTURER_PART_NUMBER: TLJT107M010R0900
footprint CAP_1210TJLJ_3P5X2P8_DIO-L
pins: 1, 2

## TLJT107M010R0900CAP_1210TJLJ_3P5X2P8_DIO-M
designator C?
MFR_NAME: Diodes Inc; GateName_1: A; SymbolName_1: CAPH; DeviceName: CAP_1210TJLJ_3P5X2P8_DIO-M; DeviceSetName: TLJT107M010R0900; LibraryName: 3D_MIG_Controller; Package: CAP_1210TJLJ_3P5X2P8_DIO-M; COPYRIGHT: Copyright (C) 2023 Ultra Librarian. All rights reserved.; DIGIKEY_PART_NUMBER_1: 478-9011-1-ND; DIGIKEY_PART_NUMBER_2: 478-9011-2-ND; DIGIKEY_PART_NUMBER_3: 478-9011-6-ND; MANUFACTURER_PART_NUMBER: TLJT107M010R0900
footprint CAP_1210TJLJ_3P5X2P8_DIO-M
pins: 1, 2

## TLVH431AQDBZR
designator U?
MANUFACTURER: Texas Instruments; GateName_1: A; SymbolName_1: TLVH431A_DBZ_3; DeviceSetName: TLVH431AQDBZR; BUILT_BY: EMA_UL_Team; LibraryName: 3D_MIG_Controller; Package: DBZ3; MANUFACTURER_PART_NUMBER: TLVH431AQDBZR; VENDOR: Texas Instruments
footprint DBZ3
pins: 1 REF, 2 CATHODE, 3 ANODE

## TLVH431AQDBZRDBZ3-L
designator U?
MANUFACTURER: Texas Instruments; GateName_1: A; SymbolName_1: TLVH431A_DBZ_3; DeviceName: DBZ3-L; DeviceSetName: TLVH431AQDBZR; BUILT_BY: EMA_UL_Team; LibraryName: 3D_MIG_Controller; Package: DBZ3-L; MANUFACTURER_PART_NUMBER: TLVH431AQDBZR; VENDOR: Texas Instruments
footprint DBZ3-L
pins: 1 REF, 2 CATHODE, 3 ANODE

## TLVH431AQDBZRDBZ3-M
designator U?
MANUFACTURER: Texas Instruments; GateName_1: A; SymbolName_1: TLVH431A_DBZ_3; DeviceName: DBZ3-M; DeviceSetName: TLVH431AQDBZR; BUILT_BY: EMA_UL_Team; LibraryName: 3D_MIG_Controller; Package: DBZ3-M; MANUFACTURER_PART_NUMBER: TLVH431AQDBZR; VENDOR: Texas Instruments
footprint DBZ3-M
pins: 1 REF, 2 CATHODE, 3 ANODE

## TMLM_04109
designator U?
GateName_1: G$1; SymbolName_1: TMLM04; DeviceSetName: TMLM_04109; LibraryName: 3D_MIG_Controller; Package: TMLM04
footprint TMLM04
pins: P$1 NC1 (io), P$2 VOUT+ (io), P$3 VOUT- (io), P$4 NC2 (io), P$5 AC_L (io), P$6 AC_N (io), P$7 NC3 (io)

## TPD2E2U06DRLR
designator U?, comment TVS DIODE 5.5V 12.4V SOT5
GateName_1: A; SymbolName_1: TPD2E2U06DRLR; LibraryName: 3D_MIG_Controller; DeviceSetName: TPD2E2U06DRLR; Package: DRL5; PARTNO: TPD2E2U06DRLR
footprint DRL5
pins: 1 NC, 2 NC_2, 3 IO1 (io), 4 GND (power), 5 IO2 (io)

## TRANS_NPN
designator ?
GateName_1: G$1; SymbolName_1: TRANS_NPN; LibraryName: 3D_MIG_Controller; DeviceSetName: TRANS_NPN; Package: TO_92_STRAIGHT
footprint TO_92_STRAIGHT
pins: P$1 E(1) (out), P$2 B(2) (in), P$3 C(3) (in)

## TRANSFERHEADER
designator ?
GateName_1: G$1; SymbolName_1: TRANSFERHEADER; LibraryName: 3D_MIG_Controller; DeviceSetName: TRANSFERHEADER; Package: TRANSFERHEADER
footprint TRANSFERHEADER
pins: 1,P1 VIN (power), 2,P2 GND (power), 3,P3 3, 4,P4 4, 5,P5 5, 6,P6 6, 7,P7 7, 8,P8 8, 9,P9 9, 10,P10 10, 11,P11 11, 12,P12 12, 13,P13 13, 14,P14 14, 15,P15 15, 16,P16 16, 17,P17 17, 18,P18 18, 19,P19 19, 20,P20 20, 21,P21 21, 22,P22 22, 23,P23 23, 24,P24 24, 25,P25 25, 26,P26 26, 27,P27 27, 28,P28 28, 29,P29 29, 30,P30 30, 31,P31 31, 32,P32 32, 33,P33 33, 34,P34 34, 35,P35 35, 36,P36 36, 37,P37 37, 38,P38 38, 39,P39 VDD (power), 40,P40 GND@40 (power)

## TRANSFORMER-CUSTOM-PSFB
designator TR?, comment transformer custom made, NP:NS1:NS2 = 1:4.52:4.52, Core= Toroid B64290A0705X830 from Epcos
GateName_1: G$1; SymbolName_1: TRANSFORMER-1XP2XS; DeviceSetName: TRANSFORMER-CUSTOM-PSFB; LibraryName: 3D_MIG_Controller; Package: TOROID_B64290A0705X830
footprint TOROID_B64290A0705X830
pins: 1 (io), 2 (io), 3 (io), 4 (io), 5 (io), 6 (io)

## UCC21542DWK
designator IC?, comment Gate Driver, Dual Channel, with Reinforced Isolation, SOIC-16 High Volt Package
GateName_1: G$1; SymbolName_1: UCC2154X; DeviceSetName: UCC21542DWK; LibraryName: 3D_MIG_Controller; Package: SOIC16_HV
footprint SOIC16_HV
pins: 1 INA (io), 2 INB (io), 3 VCCI (io), 4 GND (io), 5 DIS (io), 6 DT (io), 7 NC_1 (io), 8 VCCI_2 (io), 9 VSSB (io), 10 OUTB (io), 11 VDDB (io), 12 NC_2 (io), 13 NC_3 (io), 14 VSSA (io), 15 OUTA (io), 16 VDDA (io)

## UCC27524DGNVSS
designator IC?, comment Gate Driver, Dual Channel, Noninverting, VSSOP-8 exposed pad, Texas Instruments
GateName_1: G$1; SymbolName_1: UCC27524; DeviceName: VSS; DeviceSetName: UCC27524DGN; LibraryName: 3D_MIG_Controller; Package: VSSOP-8
footprint VSSOP-8
pins: 1 ENA (io), 2 INA (io), 3 GND (io), 4 INB (io), 5 ENB (io), 6 OUTA (io), 7 VDD (io), 8 OUTB (io)

## UCC28951PWR
designator IC?, comment Phase Shift Full Bridge SMPS Controller, TI, TSSOP-24
GateName_1: G$1; SymbolName_1: UCC2851; DeviceSetName: UCC28951PWR; LibraryName: 3D_MIG_Controller; Package: TSSOP24
footprint TSSOP24
pins: 1 VREF (io), 2 EA+ (io), 3 EA- (io), 4 COMP (io), 5 SS/EN (io), 6 DELAB (io), 7 DELCD (io), 8 DELEF (io), 9 TMIN (io), 10 RT (io), 11 RSUM (io), 12 DCM (io), 13 ADELEF (io), 14 ADEL (io), 15 CS (io), 16 SYNC (io), 17 OUTF (io), 18 OUTE (io), 19 OUTD (io), 20 OUTC (io), 21 OUTB (io), 22 OUTA (io), 23 VDD (io), 24 GND (io)

## UJ2-AV-1-SMT
designator J?, comment 3 Âµin Plating Thickness, Black Insulator, USB Jack
MANUFACTURER: CUI INC; PART_REV: 1.02; GateName_1: G$1; SymbolName_1: UJ2-AV-1-SMT; LibraryName: 3D_MIG_Controller; DeviceSetName: UJ2-AV-1-SMT; Package: CUI_UJ2-AV-1-SMT; STANDARD: MANFACTURER RECOMMENDATIONS
footprint CUI_UJ2-AV-1-SMT
pins: 1, 2, 3, 4, SH1,2 SHIELD

## USB_A
designator J?, comment USB-A Connector    Male and female variants, as well as PTH and SMT variants   SparkFun Products:  SparkFun XBee Explorer Dongle PTH Male  SparkFun MicroView-USB Programmer SMT Male  SparkFun USB Type A Female Breakout SMT Female
PARTNO: 87583-3010RPALF; GateName_1: G$1; SymbolName_1: USB_A; NOZZLE: CN400; LibraryName: 3D_MIG_Controller; DeviceSetName: USB_A; Package: USB_A_SMT
footprint USB_A_SMT
pins: D+ (io), D- (io), GND (power), SHLD1 SHIELD_1 (io), SHLD2 SHIELD_2 (io), VBUS (power)

## USB_MICRO-B
designator J?
PARTNO: 10118192-0002LF; GateName_1: G$1; SymbolName_1: USB_MICRO_B; DeviceSetName: USB_MICRO-B; LibraryName: 3D_MIG_Controller; Package: USB_MICRO-B
footprint USB_MICRO-B
pins: P$1 VBUS (io), P$2 D- (io), P$3 D+ (io), P$4 ID (io), P$5 GND (io), P$6 SHIELD1 (io), P$7 SHIELD2 (io), P$8 SHIELD3 (io), P$9 SHIELD4 (io)

## USB_MINI-B_SMT
designator J?, comment USB type Mini-B Connector    Breaks out 5th pin, and includes shield pins if needed.   SparkFun Products:    SparkFun Redboard
GateName_1: G$1; SymbolName_1: USB-5PIN; DeviceName: _SMT; DeviceSetName: USB_MINI-B; PROD_ID: CONN-08193; SF_ID: PRT-00587; LibraryName: 3D_MIG_Controller; Package: USB-MINIB
footprint USB-MINIB
pins: D+ (io), D- (io), GND (power), ID (io), S1-4 SHIELD (io), VBUS (power)

## V_REG_317SINK
designator U?, comment Voltage RegulatorStandard LM317 adjustable voltage regulator. AOI (Adjust Output Input). Google 'LM317 Calculator' for easy to use app to get the two resistor values needed. 240/720 for 5V output. 240/390 for 3.3V output. Spark Fun Electronics SKU : COM-00527
GateName_1: G$1; SymbolName_1: 78ADJ-2; DeviceName: SINK; DeviceSetName: V_REG_317; LibraryName: 3D_MIG_Controller; Package: TO220-ADJ
footprint TO220-ADJ
pins: ADJ (in), IN (in), OUT (out)

## VAR_10MM_VDRUS10
designator ?
GateName_1: G$1; SymbolName_1: VAR_10MM_VDRUS10; LibraryName: 3D_MIG_Controller; DeviceSetName: VAR_10MM_VDRUS10; Package: VAR_10MM_VDRUS10
footprint VAR_10MM_VDRUS10
pins: P$1 (io), P$2 (io)

## VCC
designator P+?, comment SUPPLY SYMBOL
GateName_1: VCC; SymbolName_1: VCC; LibraryName: 3D_MIG_Controller; DeviceSetName: VCC
pins: ?1 VCC (power)

## VDD
designator VDD?, comment SUPPLY SYMBOL
GateName_1: G$1; SymbolName_1: VDD; LibraryName: 3D_MIG_Controller; DeviceSetName: VDD
pins: ?1 VDD (power)

## VDRUS10T460BSE
designator R?
GateName_1: A; SymbolName_1: VRES; DeviceSetName: VDRUS10T460BSE; BUILT_BY: EMA_Cory; SOURCELIBRARY: Vishay_2020-08-10; VENDOR: Vishay; LibraryName: 3D_MIG_Controller; Package: VRES_VDRUS10T460BSE_VIS; COPYRIGHT: Copyright (C) 2018 Accelerated Designs. All rights reserved; DATASHEET: https://www.vishay.com/docs/29185/vdrus.pdf; MANUFACTURER_PART_NUMBER: VDRUS10T460BSE
footprint VRES_VDRUS10T460BSE_VIS
pins: 1 11, 2 12

## VDRUS10T510BSE
designator R?
GateName_1: A; SymbolName_1: VRES; DeviceSetName: VDRUS10T510BSE; BUILT_BY: EMA_Cory; SOURCELIBRARY: Vishay_2020-08-10; VENDOR: Vishay; LibraryName: 3D_MIG_Controller; Package: VRES_VDRUS10T460BSE_VIS; COPYRIGHT: Copyright (C) 2018 Accelerated Designs. All rights reserved; DATASHEET: https://www.vishay.com/docs/29185/vdrus.pdf; MANUFACTURER_PART_NUMBER: VDRUS10T510BSE
footprint VRES_VDRUS10T460BSE_VIS
pins: 1 11, 2 12

## VS-150EBU04
designator ?
GateName_1: A; SymbolName_1: DIODEV; DeviceSetName: VS-150EBU04; LibraryName: 3D_MIG_Controller; Package: POWER_TAB
footprint POWER_TAB
pins: 1, 2

## VSS
designator VSS?, comment SUPPLY SYMBOL
GateName_1: G$1; SymbolName_1: VSS; LibraryName: 3D_MIG_Controller; DeviceSetName: VSS
pins: ?1 VSS (power)

## WSLP3921L1000FEA
designator R?, comment Current Sense Resistors - SMD 9W 0.0001ohm 1%
GateName_1: G$1; SymbolName_1: R-US; DeviceSetName: WSLP3921L1000FEA; LibraryName: 3D_MIG_Controller; Package: VISHAY_WSLP3921L1000FEA
footprint VISHAY_WSLP3921L1000FEA
pins: 1, 2

## XTAL_16.384MHZ_CFPX-218XT
designator ?
GateName_1: A; SymbolName_1: SMD_3225_XTAL; DeviceName: XT; DeviceSetName: XTAL_16.384MHZ_CFPX-218; LibraryName: 3D_MIG_Controller; Package: XTAL_2.5X2.0
footprint XTAL_2.5X2.0
pins: 1 (io), 2 (io), 3 (io), 4 (io)

## XTAL_24_MHZ
designator X?
PARTNO: FA-238 24.0000MB-C3; GateName_1: G$1; SymbolName_1: SMD_3225_XTAL; DeviceSetName: XTAL_24_MHZ; LibraryName: 3D_MIG_Controller; Package: SMD_3225
footprint SMD_3225
pins: 1 (io), 2 (io), 3 (io), 4 (io)

## XTAL_25_MHZ
designator X?
PARTNO: FA-238 25.0000MB-B3; GateName_1: G$1; SymbolName_1: SMD_3225_XTAL; DeviceSetName: XTAL_25_MHZ; LibraryName: 3D_MIG_Controller; Package: SMD_3225
footprint SMD_3225
pins: 1 (io), 2 (io), 3 (io), 4 (io)

## XTAL_32.768KHZ
designator X?
PARTNO: ABS07-32.768KHZ-T; GateName_1: G$1; SymbolName_1: XTAL_32.7688KHZ; DeviceSetName: XTAL_32.768KHZ; LibraryName: 3D_MIG_Controller; Package: SMD_X_2_PADS
footprint SMD_X_2_PADS
pins: P$1 (io), P$2 (io)